# Altium integrated library Resistor_DIP.IntLib: 73 symbols
Pins are listed as number, name and electrical type; pins without a type are passive.

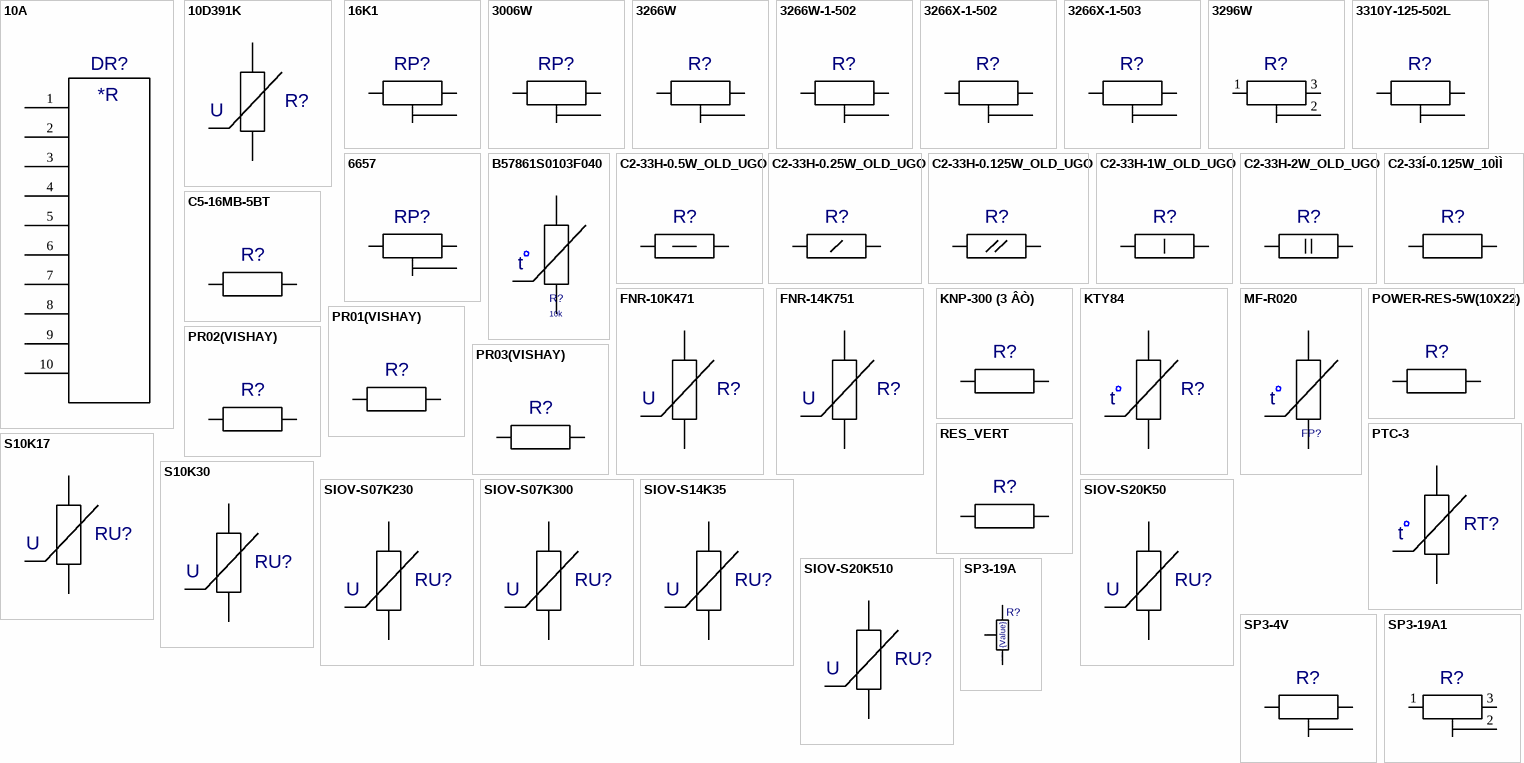
[diagram p0: symbols 10A to SP3-19A1]

## 10A
designator DR?  (value not drawn)
Value: *
footprint 10A
pins: 1, 2, 3, 4, 5, 6, 7, 8, 9, 10
text: *R

## 10D391K
designator R?  (value not drawn)
Author: pcbdesigner.ru; Value: *
footprint 10D391K
pins: 1, 2
text: U

## 16K1
designator RP?  (value not drawn)
Value: *
footprint 16K1
pins: 1, 2, 3

## 3006W
designator RP?  (value not drawn)
Value: *
footprint 3006P
pins: 1, 2, 3

## 3266W
designator R?  (value not drawn)
Value: *
footprint 3266W
pins: 1 CCW, 2 WIPER, 3 CW
1 alternate drawing of the same symbol

## 3266W-1-502
designator R?  (value not drawn)
Value: *
footprint 3266W
pins: 1 CCW, 2 WIPER, 3 CW
1 alternate drawing of the same symbol

## 3266X-1-502
designator R?  (value not drawn)
Value: *
footprint 3266X
pins: 1 CCW, 2 WIPER, 3 CW
1 alternate drawing of the same symbol

## 3266X-1-503
designator R?  (value not drawn)
Value: *
footprint 3266X
pins: 1 CCW, 2 WIPER, 3 CW
1 alternate drawing of the same symbol

## 3296W
designator R?  (value not drawn)
Value: *
footprint 3296W
pins: 1, 2, 3

## 3310Y-125-502L
designator R?  (value not drawn)
Value: *
footprint 3310Y-125
pins: 1 CCW, 2 WIPER, 3 CW
1 alternate drawing of the same symbol

## 6657
designator RP?  (value not drawn)
Value: *
footprint 6657
pins: 1, 2, 3

## B57861S0103F040
designator R?  value 10k  (hidden comment: B57861S0103F040)
Author: pcbdesigner.ru
footprint B57861
pins: 1, 2
1 alternate drawing of the same symbol
text: t

## C2-33H-0.5W_OLD_UGO
designator R?  (value not drawn)
Autor: pcbdesigner.ru; Value: *
footprint C2-33H-0.5W_15MM
pins: 1, 2

## C2-33H-0.25W_OLD_UGO
designator R?  (value not drawn)
Autor: pcbdesigner.ru; Value: *
footprint C2-33H-0.25W
pins: 1, 2

## C2-33H-0.125W_OLD_UGO
designator R?  (value not drawn)
Autor: pcbdesigner.ru; Value: *
footprint C2-33H-0.125W
pins: 1, 2

## C2-33H-1W_OLD_UGO
designator R?  (value not drawn)
Autor: pcbdesigner.ru; Value: *
footprint C2-33H-1W_17.5MM
pins: 1, 2

## C2-33H-2W_OLD_UGO
designator R?  (value not drawn)
Autor: pcbdesigner.ru; Value: *
footprint C2-33H-2W
pins: 1, 2

## C2-33Í-0.125W_10ÌÌ
designator R?  (value not drawn)
Value: *
footprint C2-33H-0.125W_10MM
pins: 1, 2

## C5-16MB-5BT
designator R?  (value not drawn)
Value: *
footprint C5-16MB-5BT
pins: 1, 2

## FNR-10K471
designator R?  (value not drawn)
Author: pcbdesigner.ru; Value: *
footprint ÑÍ2-1V_G
pins: 1, 2
text: U

## FNR-14K751
designator R?  (value not drawn)
Author: pcbdesigner.ru; Value: *
footprint FNR-14K751
pins: 1, 2
text: U

## KNP-300 (3 ÂÒ)
designator R?  (value not drawn)
Value: *
footprint KNP-300
pins: 1, 2

## KTY84
designator R?  (value not drawn)
Author: pcbdesigner.ru; Value: *
footprint SOD68
pins: 1, 2
text: t

## MF-R020
designator FP?  (value not drawn)
Value: {Value}; Author: pcbdesigner.ru
footprint MF-R020
pins: 1, 2
1 alternate drawing of the same symbol
text: t

## POWER-RES-5W(10X22)
designator R?  (value not drawn)
Value: *
footprint POWER-RES-5W(10X22)
pins: 1, 2

## PR01(VISHAY)
designator R?  (value not drawn)
Value: *
footprint PR01(VISHAY)
pins: 1, 2

## PR02(VISHAY)
designator R?  (value not drawn)
Value: *
footprint PR02(VISHAY)
pins: 1, 2

## PR03(VISHAY)
designator R?  (value not drawn)
Value: *
footprint PR03(VISHAY)
pins: 1, 2

## PTC-3
designator RT?  (value not drawn)
Author: pcbdesigner.ru; Value: *
footprint PTC-3
pins: 1, 2
text: t

## RES_VERT
designator R?  (value not drawn)
Value: *
footprint RES_VERT
pins: 1, 2

## S10K17
designator RU?  (value not drawn)
Author: pcbdesigner.ru; Value: *
footprint S10K17
pins: 1, 2
text: U

## S10K30
designator RU?  (value not drawn)
Author: pcbdesigner.ru; Value: *
footprint S10K17
pins: 1, 2
text: U

## SIOV-S07K230
designator RU?  (value not drawn)
Author: pcbdesigner.ru; Value: *
footprint S07K230
pins: 1, 2
text: U

## SIOV-S07K300
designator RU?  (value not drawn)
Author: pcbdesigner.ru; Value: *
footprint S07K230
pins: 1, 2
text: U

## SIOV-S14K35
designator RU?  (value not drawn)
Author: pcbdesigner.ru; Value: *
footprint S15K35
pins: 1, 2
text: U

## SIOV-S20K50
designator RU?  (value not drawn)
Author: pcbdesigner.ru; Value: *
footprint S20K50
pins: 1, 2
text: U

## SIOV-S20K510
designator RU?  (value not drawn)
Author: pcbdesigner.ru; Value: *
footprint SIOV-S20
pins: 1, 2
text: U

## SP3-4V
designator R?  (value not drawn)
PDIF_TY: 11107; Value: *
footprint SP3-4VA
pins: 1 I/O1, 2 I/O3, 3 I/O2

## SP3-19A
designator R?  value {Value}  (hidden comment: SP3-19A)
Potentiometer; OriginalName: RPOT2; ComponentField7: Published 8-Jun-2000; ComponentField6: Enter the set point of the potentiometer into Part Field 1
simulation model POT
footprint SP3-19A
pins: 1 TOP, 2 TAP, 3 BOT
1 alternate drawing of the same symbol
text: ïî ÷àñîâîé

## SP3-19A1
designator R?  (value not drawn)
PDIF_TY: 11107; Value: *
footprint SP3-19A1
pins: 1 I/O1, 2 I/O2, 3 I/O3

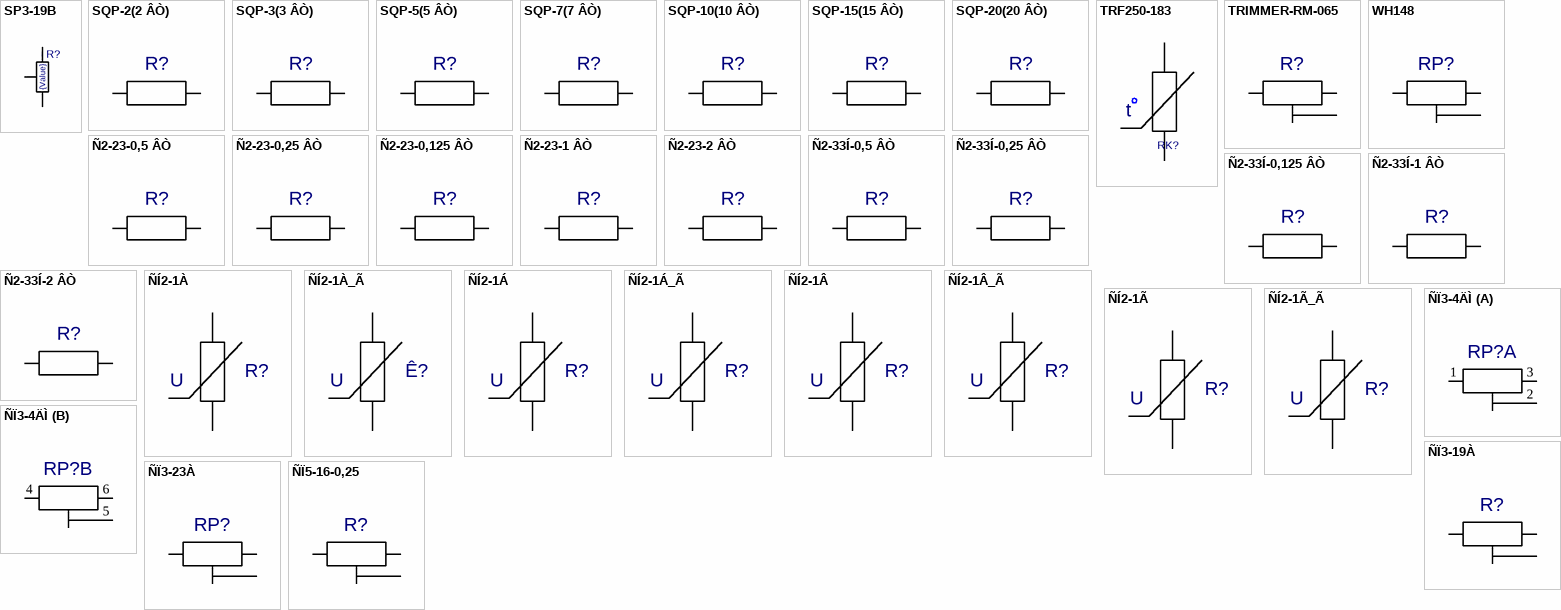
[diagram p1: symbols SP3-19B to ÑÏ5-16-0,25]

## SP3-19B
designator R?  value {Value}  (hidden comment: SP3-19B)
Potentiometer; OriginalName: RPOT2; ComponentField7: Published 8-Jun-2000; ComponentField6: Enter the set point of the potentiometer into Part Field 1
simulation model POT
footprint SP3-19B
pins: 1 BOT, 2 TAP, 3 TOP
1 alternate drawing of the same symbol
text: ïî ÷àñîâîé

## SQP-2(2 ÂÒ)
designator R?  (value not drawn)
Value: *
footprint SQP-2(2 ÂÒ)
pins: 1, 2

## SQP-3(3 ÂÒ)
designator R?  (value not drawn)
Value: *
footprint SQP-3(3 ÂÒ)
pins: 1, 2

## SQP-5(5 ÂÒ)
designator R?  (value not drawn)
Value: *
footprint SQP-5(5 ÂÒ)
pins: 1, 2

## SQP-7(7 ÂÒ)
designator R?  (value not drawn)
Value: *
footprint SQP-7(7 ÂÒ)
pins: 1, 2

## SQP-10(10 ÂÒ)
designator R?  (value not drawn)
Value: *
footprint SQP-10(10 ÂÒ)
pins: 1, 2

## SQP-15(15 ÂÒ)
designator R?  (value not drawn)
Value: *
footprint SQP-15(15 ÂÒ)
pins: 1, 2

## SQP-20(20 ÂÒ)
designator R?  (value not drawn)
Value: *
footprint SQP-20(20 ÂÒ)
pins: 1, 2

## TRF250-183
designator RK?  (value not drawn)
Value: {Value}; Author: pcbdesigner.ru
footprint TRF250-183_Gorizontal
footprint TRF250-183_Vertical
pins: 1, 2
1 alternate drawing of the same symbol
text: t

## TRIMMER-RM-065
designator R?  (value not drawn)
Value: *
footprint TRIMMER-RM-065
pins: 1, 2, 3

## WH148
designator RP?  (value not drawn)
Value: *
footprint WH148
pins: 1, 2, 3

## Ñ2-23-0,5 ÂÒ
designator R?  (value not drawn)
Value: *
footprint C2-33H-0.5W_15MM
pins: 1 I/O0, 2 I/O1

## Ñ2-23-0,25 ÂÒ
designator R?  (value not drawn)
Value: *
footprint C2-33H-0.25W
pins: 1 I/O0, 2 I/O1

## Ñ2-23-0,125 ÂÒ
designator R?  (value not drawn)
Value: *
footprint C2-33H-0.125W
pins: 1 I/O0, 2 I/O1

## Ñ2-23-1 ÂÒ
designator R?  (value not drawn)
Value: *
footprint C2-33H-1W_17.5MM
pins: 1 I/O0, 2 I/O1

## Ñ2-23-2 ÂÒ
designator R?  (value not drawn)
Value: *
footprint C2-33H-2W
pins: 1 I/O0, 2 I/O1

## Ñ2-33Í-0,5 ÂÒ
designator R?  (value not drawn)
Value: *
footprint C2-33H-0.5W_15MM
pins: 1 I/O0, 2 I/O1

## Ñ2-33Í-0,25 ÂÒ
designator R?  (value not drawn)
Value: *
footprint C2-33H-0.25W
pins: 1 I/O0, 2 I/O1

## Ñ2-33Í-0,125 ÂÒ
designator R?  (value not drawn)
Value: *
footprint C2-33H-0.125W
pins: 1 I/O0, 2 I/O1

## Ñ2-33Í-1 ÂÒ
designator R?  (value not drawn)
Value: *
footprint C2-33H-1W_17.5MM
pins: 1 I/O0, 2 I/O1

## Ñ2-33Í-2 ÂÒ
designator R?  (value not drawn)
Value: *
footprint C2-33H-2W
pins: 1 I/O0, 2 I/O1

## ÑÍ2-1À
designator R?  (value not drawn)
Author: pcbdesigner.ru; Value: *
footprint ÑÍ2-1À
pins: 1, 2
text: U

## ÑÍ2-1À_Ã
designator Ê?  (value not drawn)
Author: pcbdesigner.ru; Value: *
footprint ÑÍ2-1A_G
pins: 1, 2
text: U

## ÑÍ2-1Á
designator R?  (value not drawn)
Author: pcbdesigner.ru; Value: *
footprint ÑÍ2-1B
pins: 1, 2
text: U

## ÑÍ2-1Á_Ã
designator R?  (value not drawn)
Author: pcbdesigner.ru; Value: *
footprint ÑÍ2-1B_G
pins: 1, 2
text: U

## ÑÍ2-1Â
designator R?  (value not drawn)
Author: pcbdesigner.ru; Value: *
footprint ÑÍ2-1V
pins: 1, 2
text: U

## ÑÍ2-1Â_Ã
designator R?  (value not drawn)
Author: pcbdesigner.ru; Value: *
footprint ÑÍ2-1V_G
pins: 1, 2
text: U

## ÑÍ2-1Ã
designator R?  (value not drawn)
Author: pcbdesigner.ru; Value: *
footprint ÑÍ2-1G
pins: 1, 2
text: U

## ÑÍ2-1Ã_Ã
designator R?  (value not drawn)
Author: pcbdesigner.ru; Value: *
footprint ÑÍ2-1G_G
pins: 1, 2
text: U

## ÑÏ3-4ÄÌ
designator RP?  (value not drawn)
Value: *
footprint SP3-4DM
part A pins: 1, 2, 3
part B pins: 4 1, 5 2, 6 3

## ÑÏ3-19À
designator R?  (value not drawn)
Value: *
footprint ÑÏ3-19À
pins: 1, 2, 3

## ÑÏ3-23À
designator RP?  (value not drawn)
Value: *
footprint ÑÏ3-23À
pins: 1, 2, 3

## ÑÏ5-16-0,25
designator R?  (value not drawn)
Value: *
footprint SP5-16-025
pins: 1, 2 3, 3 2